# Altium footprint library SO16-150.PcbLib: 1 footprints
Each footprint in its own frame and in the unit in brackets; x right, y up, seen from the top. Pads: shape width x height; smd on the part's side, far side on the other; paste and mask are expansions set on the pad; w line width, h text height; cw(c..) or ccw(c..) is an arc to the next point about the centre after c.
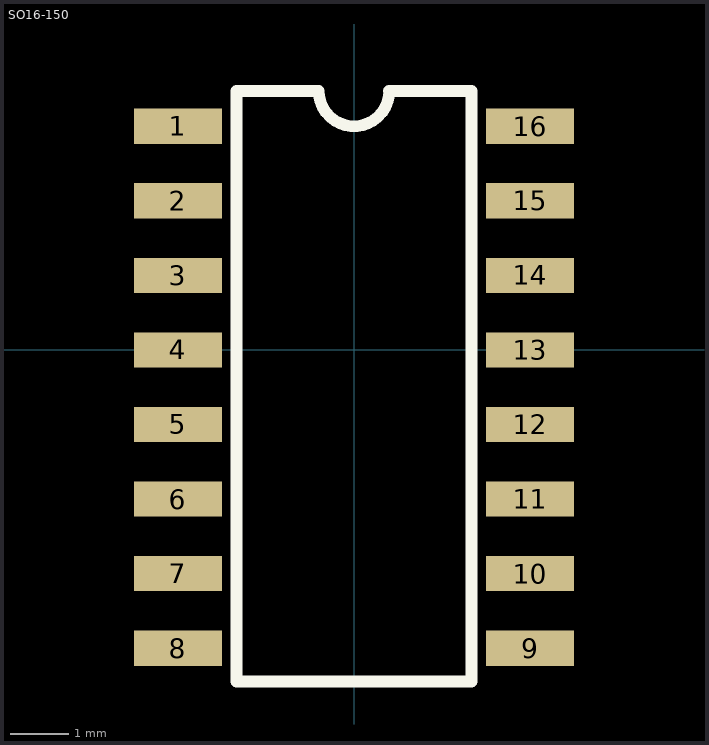
[diagram p0: the footprint, top view; thin cyan lines are the x and y axes]

## SO16-150 [mm]
pads (16):
  rect 1.5x0.6 smd: 1(-3,3.81) 2(-3,2.54) 3(-3,1.27) 4(-3,0) 5(-3,-1.27) 6(-3,-2.54) 7(-3,-3.81) 8(-3,-5.08) 9(3,-5.08) 10(3,-3.81) 11(3,-2.54) 12(3,-1.27) 13(3,0) 14(3,1.27) 15(3,2.54) 16(3,3.81)
Top Overlay:
  lines w0.2: -0.605,4.41 -2,4.41 -2,-5.65 2,-5.65 2,4.41 0.595,4.41 ; -0.6,4.41 ccw(c0,4.41) 0.6,4.41
Top Assembly:
  lines w0.1: -2,-5.65 2,-5.65 2,4.41 0.6,4.41 cw(c0,4.41) -0.6,4.41 -2,4.41 -2,-5.65
  text "'.Designator'" at -0.85,-0.375 h0.7
3D body "User Library-so16-1.step": height 1.78, standoff 0.01, extent -3.068,-5.635 3.068,4.335